# Altium schematic symbol library LogoGIBIC.SchLib: 9 symbols
Pins are listed as number, name and electrical type; pins without a type are passive.

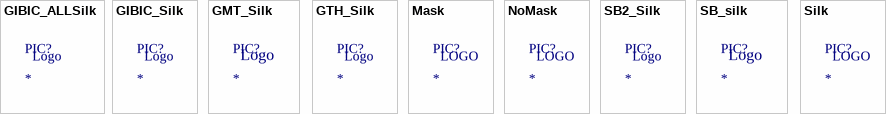
[diagram p0: symbols GIBIC_ALLSilk to Silk]

## GIBIC_ALLSilk
designator PIC?
footprint GIBIC_ALL_SILK
text: Logo

## GIBIC_Silk
designator PIC?
footprint GIBIC_SILK
text: Logo

## GMT_Silk
designator PIC?
footprint MEDTECH_SILK (length 2cm)
text: Logo

## GTH_Silk
designator PIC?
footprint TECHHUB_SILK
text: Logo

## Mask
designator PIC?
footprint MASK
text: LOGO

## NoMask
designator PIC?
footprint NoMASK
text: LOGO

## SB2_Silk
designator PIC?
footprint SMARTBEDDING2_SILK
text: Logo

## SB_silk
designator PIC?
footprint SMARTBEDDING_SILK (length 2mm)
text: Logo

## Silk
designator PIC?
footprint SILK
text: LOGO